# Altium schematic symbol library Miscellaneous.SchLib: 16 symbols
Pins are listed as number, name and electrical type; pins without a type are passive.

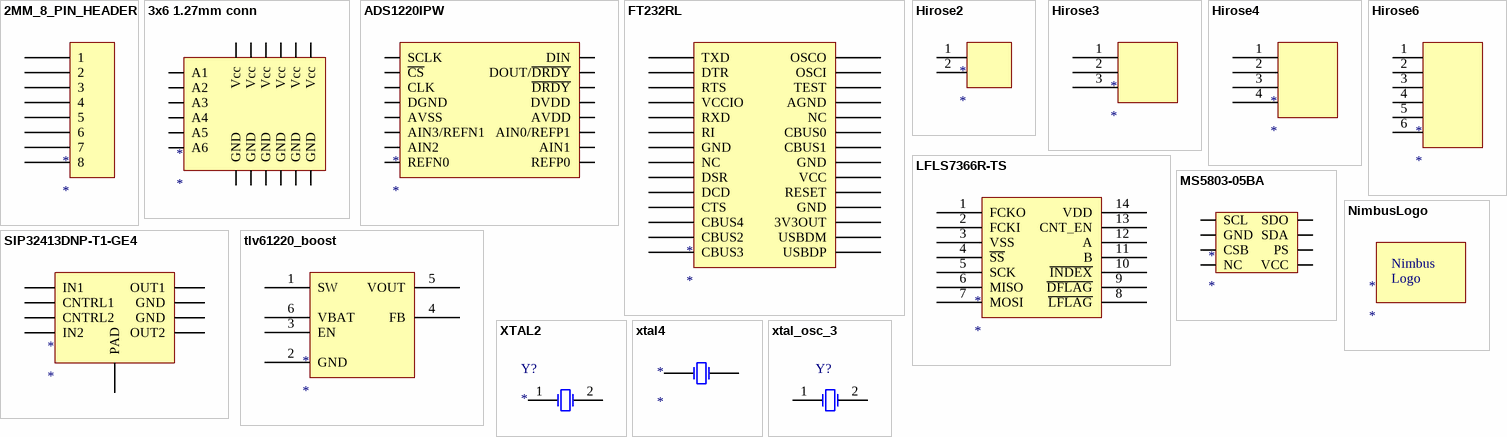
[diagram p0: symbols 2MM_8_PIN_HEADER to xtal_osc_3]

## 2MM_8_PIN_HEADER
designator *
footprint 2MM_8_PIN_HEADER
pins: 1, 2, 3, 4, 5, 6, 7, 8

## 3x6 1.27mm conn
designator *
footprint 3x6 1.27mm conn
footprint 3x6 Special
pins: 1 GND, 2 Vcc, 3 A1, 4 GND, 5 Vcc, 6 A2, 7 GND, 8 Vcc, 9 A3, 10 GND, 11 Vcc, 12 A4, 13 GND, 14 Vcc, 15 A5, 16 GND, 17 Vcc, 18 A6

## ADS1220IPW
designator *
footprint TSOP65P640X120-16N (TSOP, 16-Leads, Body 5.00x4.40mm, Pitch 0.65mm, IPC Medium Density)
pins: 1 SCLK, 2 ~{CS}, 3 CLK, 4 DGND, 5 AVSS, 6 AIN3/REFN1, 7 AIN2, 8 REFN0, 9 REFP0, 10 AIN1, 11 AIN0/REFP1, 12 AVDD, 13 DVDD, 14 ~{DRDY}, 15 DOUT/~{DRDY}, 16 DIN

## FT232RL
designator *
footprint FT232RL-SOP (SOP, 28-Leads, Body 10.20x5.30mm, Pitch 0.65mm, IPC Medium Density)
pins: 1 TXD, 2 DTR, 3 RTS, 4 VCCIO, 5 RXD, 6 RI, 7 GND, 8 NC, 9 DSR, 10 DCD, 11 CTS, 12 CBUS4, 13 CBUS2, 14 CBUS3, 15 USBDP, 16 USBDM, 17 3V3OUT, 18 GND, 19 RESET, 20 VCC, 21 GND, 22 CBUS1, 23 CBUS0, 24 NC, 25 AGND, 26 TEST, 27 OSCI, 28 OSCO

## Hirose2
designator *
footprint DF3A-2P-2DS (Two terminal, Right Angle Connector)
footprint DF3A-2P-2DS - Jumper (2mm spacing jumper)
footprint DF3A-2P-2DS Vert (Two terminal, Vertical Connector)
pins: 1, 2

## Hirose3
designator *
footprint DF3A-3P-2DS
footprint DF3A-3P-2DS-RA
pins: 1 7, 2 8, 3 9

## Hirose4
designator *
footprint DF3A-4P-2DS-RA (Hirose 4 Pin, Right Angle Connector)
footprint DF3A-4P-2DS (Hirose 4 Pin)
pins: 1 7, 2 8, 3 9, 4

## Hirose6
designator *
footprint DF3A-6P-2DS
footprint DF3A-6P-2DS-RA
pins: 1, 2, 3, 4, 5, 6

## LFLS7366R-TS
designator *
footprint LS7366R (TSOP, 14-Leads, Body 8.65x3.90mm, Pitch 1.27mm, IPC Medium Density)
footprint LS7366RTS (TSOP, 14-Leads, Body 5.00x4.50mm, Pitch 0.65mm, IPC Medium Density)
pins: 1 FCKO, 2 FCKI, 3 VSS, 4 ~{SS}, 5 SCK, 6 MISO, 7 MOSI, 8 ~{LFLAG}, 9 ~{DFLAG}, 10 ~{INDEX}, 11 B, 12 A, 13 CNT_EN, 14 VDD

## MS5803-05BA
designator *
footprint MS5803-05BA (Chip Array, Flat, 8-Leads, Pitch 1.25mm,  Body 6.20x6.40mm,  IPC Medium Density)
pins: 1 SCL, 2 GND, 3 CSB, 4 NC, 5 VCC, 6 PS, 7 SDA, 8 SDO

## NimbusLogo
designator *
footprint NIMBUS Logo (NIMBUS Logo Silkscreen)
text: Nimbus; Logo

## SIP32413DNP-T1-GE4
designator *
footprint QFN50P200X200X60_HS-9N (QFN, 8-Leads, Body 2.00x2.00mm, Pitch 0.50mm, Thermal Pad 0.80x1.45mm, IPC Medium Density)
pins: 1 IN1, 2 CNTRL1, 3 CNTRL2, 4 IN2, 5 OUT2, 6 GND, 7 GND, 8 OUT1, 9 PAD

## tlv61220_boost
designator *
footprint TLV61220_BOOST (TSOP, 6-Leads, Body 2.90x1.60mm, Pitch 0.95mm, IPC Medium Density)
pins: 1 SW, 2 GND, 3 EN, 4 FB, 5 VOUT, 6 VBAT

## XTAL2
designator Y?
Two Lead Crystal Oscillator
footprint HC49/US (Two Lead Surface Mount Crystal Oscillator)
pins: 1 OSC1, 2 OSC2

## xtal4
designator *
footprint xtal4
pins: 2 OSC2, 4 OSC1

## xtal_osc_3
designator Y?  (value not drawn)
3 Lead Crystal Oscillator
footprint Surface Mount Cylindrical Can, Radial (2.00mm x 6.1mm Tuning Fork Crystal)
pins: 1 OSC1, 2 OSC2, 3 NC hidden